# Altium footprint library bemicro_max10_edge_connector.PcbLib: 1 footprints
Each footprint in its own frame and in the unit in brackets; x right, y up, seen from the top. Pads: shape width x height; smd on the part's side, far side on the other; paste and mask are expansions set on the pad; w line width, h text height; cw(c..) or ccw(c..) is an arc to the next point about the centre after c.
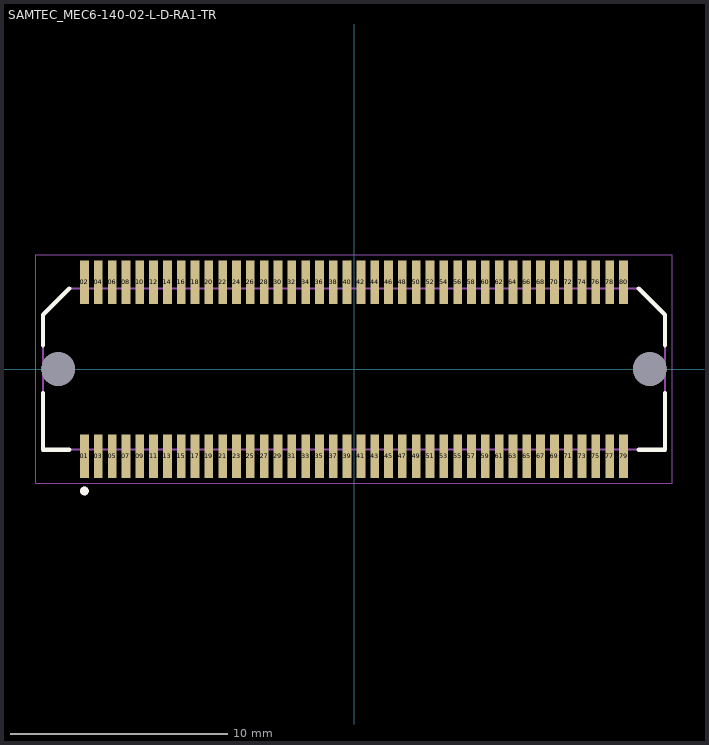
[diagram p0: the footprint, top view; thin cyan lines are the x and y axes]

## SAMTEC_MEC6-140-02-L-D-RA1-TR [mm]
pads (82):
  rect 0.4x2 smd: 01(-12.383,-4) 02(-12.383,4) 03(-11.747,-4) 04(-11.747,4) 05(-11.112,-4) 06(-11.112,4) 07(-10.477,-4) 08(-10.477,4) 09(-9.842,-4) 10(-9.842,4) 11(-9.207,-4) 12(-9.207,4) 13(-8.572,-4) 14(-8.572,4) 15(-7.938,-4) 16(-7.938,4) 17(-7.302,-4) 18(-7.302,4) 19(-6.667,-4) 20(-6.667,4) 21(-6.032,-4) 22(-6.032,4) 23(-5.397,-4) 24(-5.397,4) 25(-4.763,-4) 26(-4.763,4) 27(-4.127,-4) 28(-4.127,4) 29(-3.492,-4) 30(-3.492,4) 31(-2.857,-4) 32(-2.857,4) 33(-2.222,-4) 34(-2.222,4) 35(-1.587,-4) 36(-1.587,4) 37(-0.953,-4) 38(-0.953,4) 39(-0.318,-4) 40(-0.318,4) 41(0.318,-4) 42(0.318,4) 43(0.953,-4) 44(0.953,4) 45(1.587,-4) 46(1.587,4) 47(2.222,-4) 48(2.222,4) 49(2.857,-4) 50(2.857,4) 51(3.492,-4) 52(3.492,4) 53(4.127,-4) 54(4.127,4) 55(4.763,-4) 56(4.763,4) 57(5.397,-4) 58(5.397,4) 59(6.032,-4) 60(6.032,4) 61(6.667,-4) 62(6.667,4) 63(7.302,-4) 64(7.302,4) 65(7.938,-4) 66(7.938,4) 67(8.572,-4) 68(8.572,4) 69(9.207,-4) 70(9.207,4) 71(9.842,-4) 72(9.842,4) 73(10.477,-4) 74(10.477,4) 75(11.112,-4) 76(11.112,4) 77(11.747,-4) 78(11.747,4) 79(12.383,-4) 80(12.383,4)
  round 1.55 hole 1.55 unplated: ""(-13.593,0) ""(13.593,0)
Top Overlay:
  circle w0.2: c-12.383,-5.6 r0.1
  lines w0.2: -14.285,-1.095 -14.285,-3.7 -13.081,-3.7 ; -14.285,1.095 -14.285,2.5 -13.085,3.7 ; 13.081,-3.7 14.285,-3.7 14.285,-1.095 ; 13.085,3.7 14.285,2.5 14.285,1.095
Mechanical 13:
  circle w0.2: c-12.383,-5.6 r0.1
  lines w0.1: -14.285,-3.7 -14.285,2.5 -13.085,3.7 13.085,3.7 14.285,2.5 14.285,-3.7 -14.285,-3.7
Mechanical 15:
  lines w0.05: -14.618,-5.25 -14.618,5.25 14.618,5.25 14.618,-5.25 -14.618,-5.25
3D body "MEC6-140-02-L-D-RA1-TR.stp": height 5.75, standoff -1.08, extent -14.214,-4.528 14.351,4.572